# EAGLE library part MPL3115A2 (library Parts for D-DAQ)
I2C Barometric Pressure & Ambient Temperature sensor
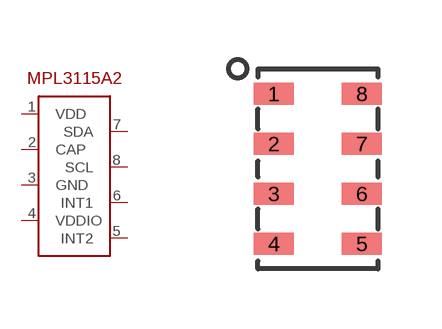
[diagram p4: symbol with the pads of LGA-8; footprint LGA-8]

Designator prefix -

## MPL3115A2  [LGA-8]
1  VDD  pwr
2  CAP  pas
3  GND  pwr
4  VDDIO  pwr
5  INT2  out
6  INT1  out
7  SDA
8  SCL  in

## Footprint LGA-8 (pad centres in mm)
smd 1 x 0.55: 1 -1.1,1.875; 2 -1.1,0.625; 3 -1.1,-0.625; 4 -1.1,-1.875; 5 1.1,-1.875; 6 1.1,-0.625; 7 1.1,0.625; 8 1.1,1.875